# Altium footprint library Chip2PinSM127P600-8N_FerriteBead_TDK.PcbLib: 1 footprints
Each footprint in its own frame and in the unit in brackets; x right, y up, seen from the top. Pads: shape width x height; smd on the part's side, far side on the other; paste and mask are expansions set on the pad; w line width, h text height; cw(c..) or ccw(c..) is an arc to the next point about the centre after c.
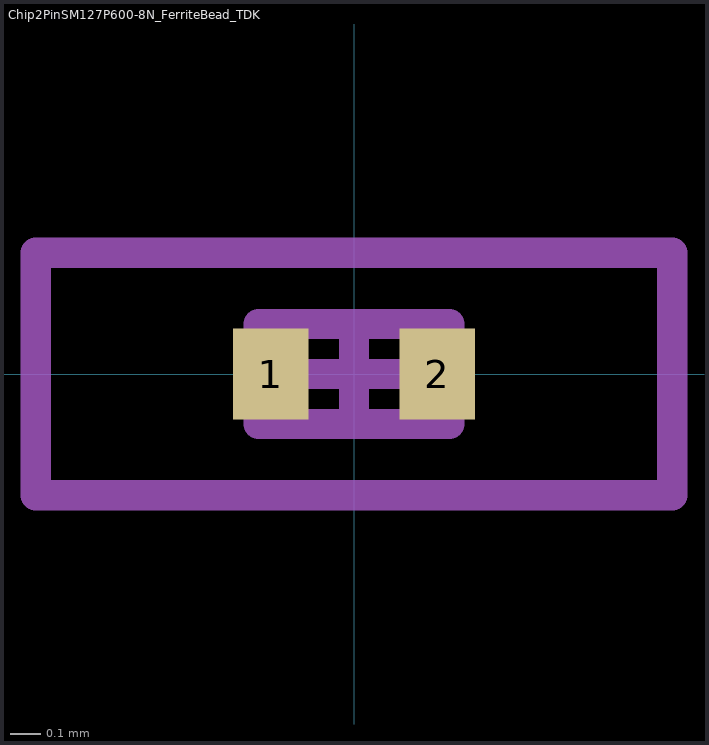
[diagram p0: the footprint, top view; thin cyan lines are the x and y axes]

## Chip2PinSM127P600-8N_FerriteBead_TDK [mm] "Chip2PinSM127P600-8N_FerriteBead_TDK"
height 0.2
pads (2):
  rect 0.25x0.3 smd: 1(-0.275,0) 2(0.275,0)
Mechanical 13:
  lines w0.1: -0.315,-0.165 -0.315,0.165 0.315,0.165 0.315,-0.165 -0.315,-0.165
Mechanical 15:
  lines w0.1: -0.165,0 0.165,0 ; 0,-0.165 0,0.165 ; -1.05,-0.4 -1.05,0.4 1.05,0.4 1.05,-0.4 -1.05,-0.4
3D body: height 0.2, standoff 0, extent -0.315,-0.165 0.315,0.165